# Altium footprint library RFID_CC1101_433MHz.PcbLib: 103 footprints (part 7 of 7)
Each footprint in its own frame and in the unit in brackets; x right, y up, seen from the top. Pads: shape width x height; smd on the part's side, far side on the other; paste and mask are expansions set on the pad; w line width, h text height; cw(c..) or ccw(c..) is an arc to the next point about the centre after c.
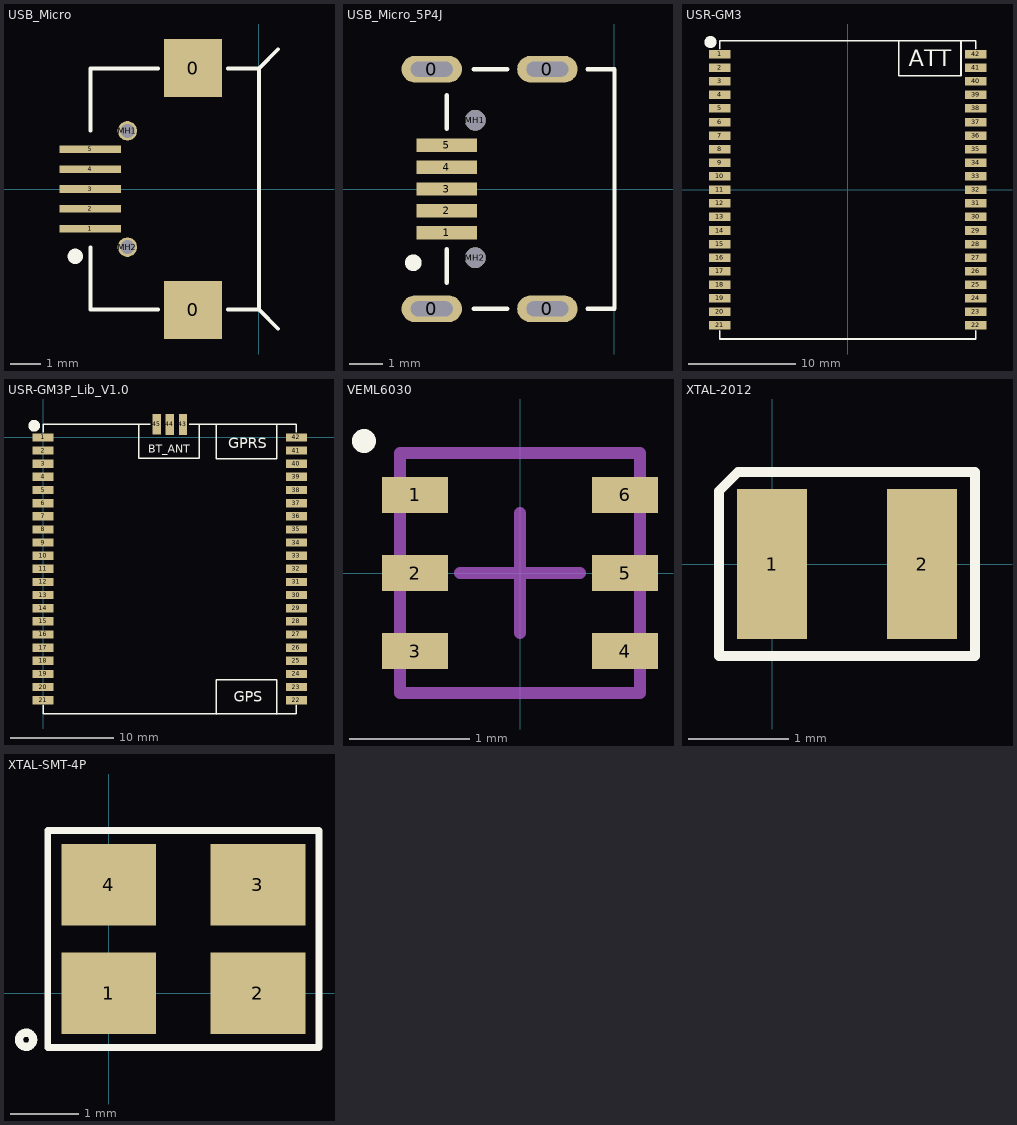
[diagram p6: the footprints below, top view; thin cyan lines are the x and y axes]

## USB_Micro [mm] "MK5P, Base, SMT, With locating column, roll edge."
pads (9):
  rect 1.9x1.9 smd: 0(-2.15,-3.95) 0(-2.15,3.95)
  rect 2x0.25 smd: 1(-5.508,-1.3) 2(-5.508,-0.65) 3(-5.508,0) 4(-5.508,0.65) 5(-5.508,1.3)
  round 0.635 hole 0.457 unplated: MH1(-4.3,1.9) MH2(-4.3,-1.9)
Top Overlay:
  circle w0.25: c-6,-2.2 r0.125
  lines w0.127: -5.508,-3.937 -3.302,-3.937 ; -5.508,-3.9 -5.508,-1.905 ; -5.508,1.905 -5.508,3.9 ; -5.508,3.937 -3.302,3.937 ; -1.016,-3.937 0,-3.937 0.63,-4.567 ; -1.016,3.937 0,3.937 0.63,4.567 ; 0,-3.9 0,3.9

## USB_Micro_5P4J [mm] "MK5P, Base, DIP, With locating column, roll edge."
pads (11):
  oval 1.8x0.8 hole 0.45 slot 1.25 at 0 deg: 0(-5.45,-3.575) 0(-5.45,3.575) 0(-2,-3.575) 0(-2,3.575)
  rect 1.8x0.4 smd: 1(-5,-1.3) 2(-5,-0.65) 3(-5,0) 4(-5,0.65) 5(-5,1.3)
  round 0.62 hole 0.62 unplated: MH1(-4.15,2.05) MH2(-4.15,-2.05)
Top Overlay:
  circle w0.25: c-6,-2.2 r0.125
  lines w0.127: -5,-2.8 -5,-1.8 ; -5,1.8 -5,2.8 ; -4.2,-3.575 -3.2,-3.575 ; -4.2,3.575 -3.2,3.575 ; -0.8,-3.575 0,-3.575 0,3.575 -0.8,3.575

## USR-GM3 [mm]
pads (42):
  rect 2x0.8 smd mask+0.051: 1(-12,12.7) 2(-12,11.43) 3(-12,10.16) 4(-12,8.89) 5(-12,7.62) 6(-12,6.35) 7(-12,5.08) 8(-12,3.81) 9(-12,2.54) 10(-12,1.27) 11(-12,0) 12(-12,-1.27) 13(-12,-2.54) 14(-12,-3.81) 15(-12,-5.08) 16(-12,-6.35) 17(-12,-7.62) 18(-12,-8.89) 19(-12,-10.16) 20(-12,-11.43) 21(-12,-12.7) 22(12,-12.7) 23(12,-11.43) 24(12,-10.16) 25(12,-8.89) 26(12,-7.62) 27(12,-6.35) 28(12,-5.08) 29(12,-3.81) 30(12,-2.54) 31(12,-1.27) 32(12,0) 33(12,1.27) 34(12,2.54) 35(12,3.81) 36(12,5.08) 37(12,6.35) 38(12,7.62) 39(12,8.89) 40(12,10.16) 41(12,11.43) 42(12,12.7)
Top Overlay:
  circle w0.559: c-12.862,13.843 r0.284
  lines w0.152: -12.003,-13.208 -12,-13.97 12,-13.97 12,-13.208 ; -12.003,13.208 -12,13.97 12,13.97 12,13.208 ; 4.761,13.97 4.761,10.668 10.603,10.668 10.603,13.97
  text "ATT" at 5.715,11.557 h1.52

## USR-GM3P_Lib_V1.0 [mm]
pads (45):
  rect 2x0.8 smd mask+0.051: 1(0,0) 2(0,-1.27) 3(0,-2.54) 4(0,-3.81) 5(0,-5.08) 6(0,-6.35) 7(0,-7.62) 8(0,-8.89) 9(0,-10.16) 10(0,-11.43) 11(0,-12.7) 12(0,-13.97) 13(0,-15.24) 14(0,-16.51) 15(0,-17.78) 16(0,-19.05) 17(0,-20.32) 18(0,-21.59) 19(0,-22.86) 20(0,-24.13) 21(0,-25.4) 22(24.5,-25.4) 23(24.5,-24.13) 24(24.5,-22.86) 25(24.5,-21.59) 26(24.5,-20.32) 27(24.5,-19.05) 28(24.5,-17.78) 29(24.5,-16.51) 30(24.5,-15.24) 31(24.5,-13.97) 32(24.5,-12.7) 33(24.5,-11.43) 34(24.5,-10.16) 35(24.5,-8.89) 36(24.5,-7.62) 37(24.5,-6.35) 38(24.5,-5.08) 39(24.5,-3.81) 40(24.5,-2.54) 41(24.5,-1.27) 42(24.5,0)
  rect 0.8x2 smd mask+0.051: 43(13.526,1.262) 44(12.256,1.262) 45(10.986,1.27)
Top Overlay:
  circle w0.559: c-0.86,1.135 r0.284
  lines w0.125: -0.001,0.5 -0.001,1.295 10.363,1.295 ; 14.156,1.295 24.5,1.295 24.5,0.5
  lines w0.152: -0.001,-26.678 -0.001,-25.916 ; 0,-26.73 24.5,-26.73 24.5,-25.916 ; 9.271,1.295 9.271,-2.007 15.113,-2.007 15.113,1.295 ; 16.763,1.262 16.763,-2.04 22.605,-2.04 22.605,1.262 ; 16.764,-26.738 16.764,-23.436 22.606,-23.436 22.606,-26.738
  text "GPRS" at 17.906,-1.024 h1.02
  text "GPS" at 18.415,-25.578 h1.02
  text "BT_ANT" at 10.185,-1.499 h0.76

## VEML6030 [mm] "6-Leads, Body 2.00x2.00mm, Pitch 0.65mm, IPC Medium Density"
height 0.87
pads (6):
  rect 0.55x0.3 smd: 1(-0.875,0.65) 2(-0.875,0) 3(-0.875,-0.65) 4(0.875,-0.65) 5(0.875,0) 6(0.875,0.65)
Top Overlay:
  circle w0.1: c-1.3,1.1 r0.05
Mechanical 13:
  lines w0.1: -1,-1 1,-1 1,1 -1,1 -1,-1
Mechanical 15:
  lines w0.1: -0.5,0 0.5,0 ; 0,-0.5 0,0.5
3D body: height 0.87, standoff 0.05, extent -1,-1 1,1

## XTAL-2012 [mm] "NX2012SA, 2 pins, 2.0mmx1.2mm."
height 0.8
pads (2):
  rect 0.7x1.5 smd: 1(0,0) 2(1.5,0)
Top Overlay:
  lines w0.1: -0.53,-0.92 2.03,-0.92 2.03,0.92 -0.34,0.92 -0.53,0.73 -0.53,-0.92

## XTAL-SMT-4P [mm] "3225, 3.2mmx2.5mm"
pads (4):
  rect 1.4x1.2 smd: 1(0,0) 2(2.2,0) 3(2.2,1.6) 4(0,1.6)
Top Overlay:
  circle w0.12: c-1.219,-0.686 r0.105
  lines w0.1: -0.9,-0.8 -0.9,2.4 3.1,2.4 3.1,-0.8 -0.9,-0.8